# EAGLE library part MK3DS1/5-3,81 (library untitled)
15-polige, dreistckige Reihenklemme im Raster 3.81mm Typ Phoenix MK3DS 1/5-3,81, Artikelnummer 1727764
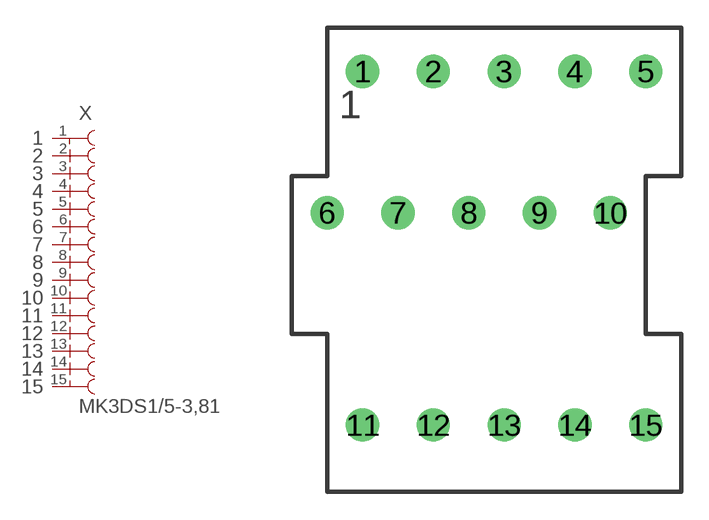
[diagram p3: symbol with the pads of MK3DS1/5; footprint MK3DS1/5]

Designator prefix X

## MK3DS1/5-3,81  [MK3DS1/5]
1  1  pas
2  2  pas
3  3  pas
4  4  pas
5  5  pas
6  6  pas
7  7  pas
8  8  pas
9  9  pas
10  10  pas
11  11  pas
12  12  pas
13  13  pas
14  14  pas
15  15  pas

## Footprint MK3DS1/5 (pad centres in mm)
15-polige, dreistckige Reihenklemme Phoenix MK3DS1/5
drill 1.194 pad 1.778 round: 1 0,19.05; 2 3.81,19.05; 3 7.62,19.05; 4 11.43,19.05; 5 15.24,19.05; 6 -1.905,11.43; 7 1.905,11.43; 8 5.715,11.43; 9 9.525,11.43; 10 13.335,11.43; 11 0,0; 12 3.81,0; 13 7.62,0; 14 11.43,0; 15 15.24,0